# Altium footprint library SIP10_2_MM_90.PcbLib: 2 footprints
Each footprint in its own frame and in the unit in brackets; x right, y up, seen from the top. Pads: shape width x height; smd on the part's side, far side on the other; paste and mask are expansions set on the pad; w line width, h text height; cw(c..) or ccw(c..) is an arc to the next point about the centre after c.
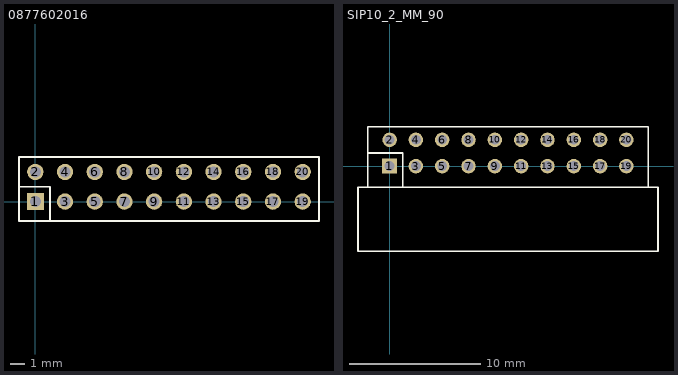
[diagram p0: the footprints below, top view; thin cyan lines are the x and y axes]

## 0877602016 [mm]
pads (20):
  rect 1.15x1.15 hole 0.75: 1(0,0)
  round 1.1 hole 0.75: 2(0,2) 3(2,0) 4(2,2) 5(4,0) 6(4,2) 7(6,0) 8(6,2) 9(8,0) 10(8,2) 11(10,0) 12(10,2) 13(12,0) 14(12,2) 15(14,0) 16(14,2) 17(16,0) 18(16,2) 19(18,0) 20(18,2)
Top Overlay:
  lines w0.127: -1.1,1 1,1 1,-1.3 ; -1.1,-1.3 19.1,-1.3 19.1,3 -1.1,3 -1.1,-1.3
3D body "877602016.stp": height 4, standoff -4, extent -0.995,-3.899 19.004,3.001

## SIP10_2_MM_90 [mm]
pads (20):
  rect 1.15x1.15 hole 0.75: 1(0,0)
  round 1.1 hole 0.75: 2(0,2) 3(2,0) 4(2,2) 5(4,0) 6(4,2) 7(6,0) 8(6,2) 9(8,0) 10(8,2) 11(10,0) 12(10,2) 13(12,0) 14(12,2) 15(14,0) 16(14,2) 17(16,0) 18(16,2) 19(18,0) 20(18,2)
Top Overlay:
  lines w0.127: -1.65,1 1,1 ; -1.65,-1.6 -2.4,-1.6 -2.4,-6.477 20.4,-6.477 20.4,-1.6 19.65,-1.6 ; -1.65,-1.6 -1.65,3 19.65,3 19.65,-1.6 ; -1.65,-1.6 19.65,-1.6 ; 1,1 1,-1.6 1,1
3D body "878332020.stp": height 6.35, standoff -2.11, extent -2.332,-6.408 20.318,2.242